# EAGLE library part SCHALTER_ELMA_06-2X12 (library 1A-meinLib)
Stufenschalter 2 x 12, ELMA, Achse: 4mm, M7x0.75
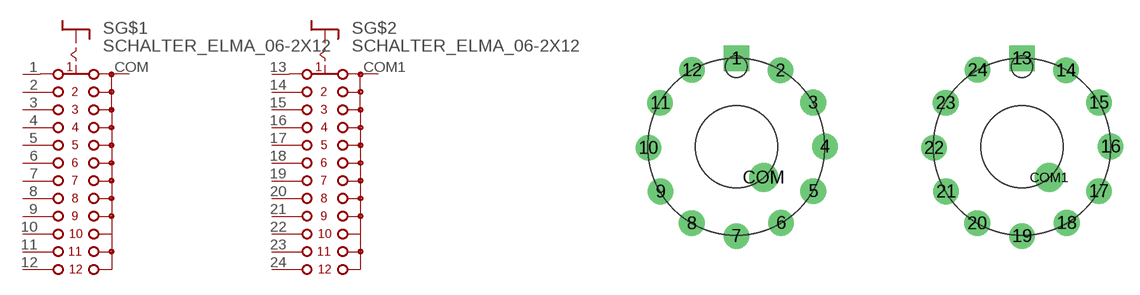
[diagram p254: symbol with the pads of SWITCH_ELMA_06-2X12; footprint SWITCH_ELMA_06-2X12]

Designator prefix S; gates G$1=SWITCH-12POL G$2=SWITCH-12POL

## SCHALTER_ELMA_06-2X12  [SWITCH_ELMA_06-2X12]
1  G$1:1  pas
2  G$1:2  pas
3  G$1:3  pas
4  G$1:4  pas
5  G$1:5  pas
6  G$1:6  pas
7  G$1:7  pas
8  G$1:8  pas
9  G$1:9  pas
10  G$1:10  pas
11  G$1:11  pas
12  G$1:12  pas
13  G$2:1  pas
14  G$2:2  pas
15  G$2:3  pas
16  G$2:4  pas
17  G$2:5  pas
18  G$2:6  pas
19  G$2:7  pas
20  G$2:8  pas
21  G$2:9  pas
22  G$2:10  pas
23  G$2:11  pas
24  G$2:12  pas
COM  G$1:A  pas
COM1  G$2:A  pas

## Footprint SWITCH_ELMA_06-2X12 (pad centres in mm)
drill 1.6 square: 1 0,8.278; 13 26.67,8.278
drill 1.6 round: 2 4.112,7.151; 3 7.183,4.144; 4 8.278,0.032; 5 7.183,-4.139; 6 4.176,-7.115; 7 0,-8.342; 8 -4.176,-7.151; 9 -7.083,-4.176; 10 -8.214,-0.096; 11 -7.119,4.107; 12 -4.144,7.183; 14 30.782,7.151; 15 33.853,4.144; 16 34.948,0.032; 17 33.853,-4.139; 18 30.846,-7.115; 19 26.67,-8.342; 20 22.494,-7.151; 21 19.587,-4.176; 22 18.456,-0.096; 23 19.551,4.107; 24 22.526,7.183
drill 1.8 round: COM 2.539,-2.868; COM1 29.209,-2.868